# EAGLE library part RADINO32_SX1272 (library radino)
radino32 SX1272 Description The In-Circuit radino32 SX1272 combines an STM32L151 with the Semtech SX1272 in a small form-factor EMC-compliant module. The radino32 SX1272 offers improved CPU power, larger RAM-, Flash- and EPROM-memories and expanded pin functionalities. Modul-specific Arduino libraries and additional information are available at: in-circuit.de/product_info <http://shop.in-circuit.de/product_info.php?cPath=22_27&products_id=195> For more Products and Arduino compatible RF-Modules please visit our website: shop.in-circuit.de <http://shop.in-circuit.de/index.php>
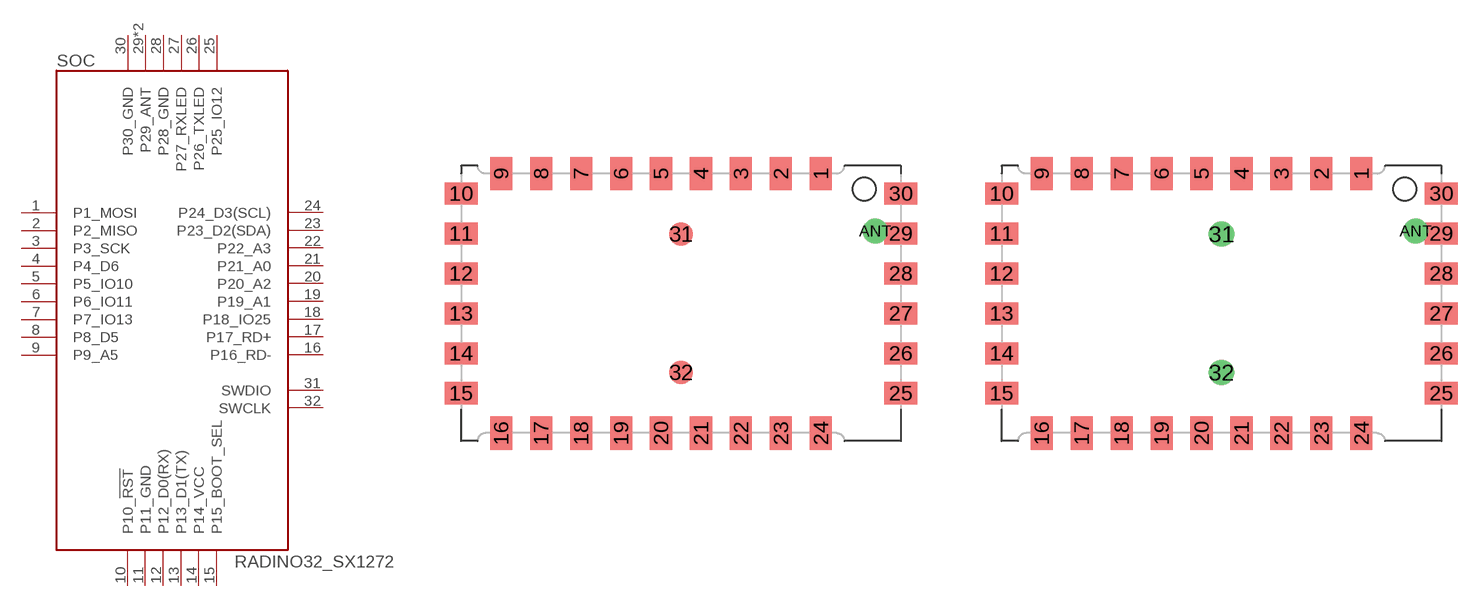
[diagram p12: symbol with the pads of RADINO32; footprints RADINO32, RADINO32_HAND_SOLDERING]

Designator prefix SOC

## RADINO32_SX1272 (ORDER_NUMBER: 901.384)  [RADINO32]
1  P1_MOSI  pas
2  P2_MISO  pas
3  P3_SCK  pas
4  P4_D6  pas
5  P5_IO10  pas
6  P6_IO11  pas
7  P7_IO13  pas
8  P8_D5  pas
9  P9_A5  pas
10  P10_!RST  pas
11  P11_GND  pwr
12  P12_D0(RX)  pas
13  P13_D1(TX)  pas
14  P14_VCC  pwr
15  P15_BOOT_SEL  pas
16  P16_RD-  pas
17  P17_RD+  pas
18  P18_IO25  pas
19  P19_A1  pas
20  P20_A2  pas
21  P21_A0  pas
22  P22_A3  pas
23  P23_D2(SDA)  pas
24  P24_D3(SCL)  pas
25  P25_IO12  pas
26  P26_TXLED  pas
27  P27_RXLED  pas
28  P28_GND  pas
29  P29_ANT  pas
30  P30_GND  pwr
31  SWDIO  pas
32  SWCLK  pas
ANT  P29_ANT  pas

## RADINO32_SX1272_HS (ORDER_NUMBER: 901.384)  [RADINO32_HAND_SOLDERING]
Pads as for RADINO32

## RADINO32_SX1272_SP (ORDER_NUMBER: 901.384)  [RADINO32_SHORT_PINS]
Pads as for RADINO32

## Footprint RADINO32 (pad centres in mm)
radino32 standard footprint Standard radino32 footprint suitable for manual and reflow soldering. The footprint is designed to take up all devices of the radino and radino32 families. Notes: Pins 31 and 32 are reserved for radino32 SWD and should be not connected when using radino devices
smd 1.4 x 2.1: 1 8.89,8.255; 2 6.35,8.255; 3 3.81,8.255; 4 1.27,8.255; 5 -1.27,8.255; 6 -3.81,8.255; 7 -6.35,8.255; 8 -8.89,8.255; 9 -11.43,8.255; 16 -11.43,-8.255; 17 -8.89,-8.255; 18 -6.35,-8.255; 19 -3.81,-8.255; 20 -1.27,-8.255; 21 1.27,-8.255; 22 3.81,-8.255; 23 6.35,-8.255; 24 8.89,-8.255
smd 2.1 x 1.4: 10 -13.97,6.985; 11 -13.97,4.445; 12 -13.97,1.905; 13 -13.97,-0.635; 14 -13.97,-3.175; 15 -13.97,-5.715; 25 13.97,-5.715; 26 13.97,-3.175; 27 13.97,-0.635; 28 13.97,1.905; 29 13.97,4.445; 30 13.97,6.985
smd 1.5 x 1.5: 31 0,4.4; 32 0,-4.4
drill 0.91 pad 1.6: ANT 12.339,4.592

## Footprint RADINO32_HAND_SOLDERING (pad centres in mm)
radino32 standard footprint Standard radino32 footprint suitable for manual soldering. The footprint is designed to take up all devices of the radino and radino32 families. Notes: Pins 31 and 32 are reserved for radino32 SWD and should be not connected when using radino devices
smd 1.4 x 2.1: 1 8.89,8.255; 2 6.35,8.255; 3 3.81,8.255; 4 1.27,8.255; 5 -1.27,8.255; 6 -3.81,8.255; 7 -6.35,8.255; 8 -8.89,8.255; 9 -11.43,8.255; 16 -11.43,-8.255; 17 -8.89,-8.255; 18 -6.35,-8.255; 19 -3.81,-8.255; 20 -1.27,-8.255; 21 1.27,-8.255; 22 3.81,-8.255; 23 6.35,-8.255; 24 8.89,-8.255
smd 2.1 x 1.4: 10 -13.97,6.985; 11 -13.97,4.445; 12 -13.97,1.905; 13 -13.97,-0.635; 14 -13.97,-3.175; 15 -13.97,-5.715; 25 13.97,-5.715; 26 13.97,-3.175; 27 13.97,-0.635; 28 13.97,1.905; 29 13.97,4.445; 30 13.97,6.985
drill 0.91 pad 1.6: 31 0,4.4; 32 0,-4.4; ANT 12.339,4.592

## Footprint RADINO32_SHORT_PINS (pad centres in mm)
radino32 short pins footprint Extra small radino32 footprint suitable for space limited applicaion an reflow soldering. The footprint is designed to take up all devices of the radino and radino32 Notes: Pins 31 and 32 are reserved for radino32 SWD and should be not connected when using radino devices Manual soldering is not recommended when using this footprint
smd 1.4 x 1.295: 1 8.89,7.853; 2 6.35,7.853; 3 3.81,7.853; 4 1.27,7.853; 5 -1.27,7.853; 6 -3.81,7.853; 7 -6.35,7.853; 8 -8.89,7.853; 9 -11.43,7.853; 16 -11.43,-7.853; 17 -8.89,-7.853; 18 -6.35,-7.853; 19 -3.81,-7.853; 20 -1.27,-7.853; 21 1.27,-7.853; 22 3.81,-7.853; 23 6.35,-7.853; 24 8.89,-7.853
smd 1.295 x 1.4: 10 -13.568,6.985; 11 -13.568,4.445; 12 -13.568,1.905; 13 -13.568,-0.635; 14 -13.568,-3.175; 15 -13.568,-5.715; 25 13.568,-5.715; 26 13.568,-3.175; 27 13.568,-0.635; 28 13.568,1.905; 30 13.568,6.985
smd 2.1 x 1.4: 29 13.97,4.445
smd 1.5 x 1.5: 31 0,4.4; 32 0,-4.4
drill 0.91 pad 1.6: ANT 12.339,4.592